# EAGLE library part 18P_3.2IN_TFT_LCD (library 18P_3.2in_TFT_LCD)
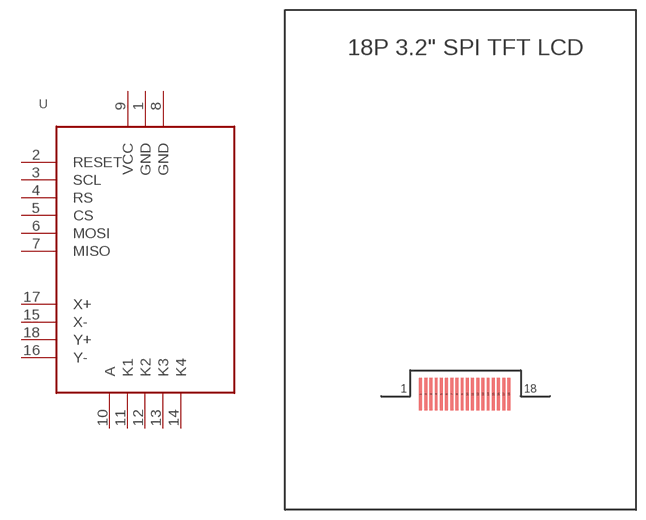
[diagram p0: symbol with the pads of 18PIN_TFTLCD; footprint 18PIN_TFTLCD]

Designator prefix -

## 18P_3.2IN_TFT_LCD  [18PIN_TFTLCD]
1  GND
2  RESET
3  SCL
4  RS
5  CS
6  MOSI
7  MISO
8  GND
9  VCC
10  A
11  K1
12  K2
13  K3
14  K4
15  X-
16  Y-
17  X+
18  Y+

## Footprint 18PIN_TFTLCD (pad centres in mm)
smd 0.45 x 5: 1 -4.59,-21.42; 2 -3.79,-21.42; 3 -2.99,-21.42; 4 -2.19,-21.42; 5 -1.39,-21.42; 6 -0.59,-21.42; 7 0.21,-21.42; 8 1.01,-21.42; 9 1.81,-21.42; 10 2.61,-21.42; 11 3.41,-21.42; 12 4.21,-21.42; 13 5.01,-21.42; 14 5.81,-21.42; 15 6.61,-21.42; 16 7.41,-21.42; 17 8.21,-21.42; 18 9.01,-21.42